# Altium schematic symbol library MAX851XEXK.SchLib: 1 symbol
Pins are listed as number, name and electrical type; pins without a type are passive.

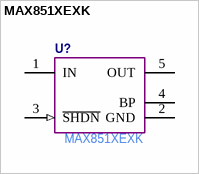
[diagram p0: symbol MAX851XEXK]

## MAX851XEXK
designator U?  Manufacturer Part Number: MAX851XEXK  (hidden comment: *)
pins: 1 IN (power), 2 GND (power), 3 ~{SHDN} (in), 4 BP, 5 OUT (power)